# Altium schematic symbol library XH-3A_C29086011_XH-3A_C2908601.schdoc.SCHLIB: 1 symbol
Pins are listed as number, name and electrical type; pins without a type are passive.

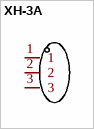
[diagram p0: symbol XH-3A]

## XH-3A
designator CN??  (value not drawn)
Symbol: XH-3A_C2908601; Add into BOM: yes; Pins Structure: 1x3P; Pitch: 2.5mm; Number of PINs Per Row: 3; Reference Series: XH; Current Rating (Max): 3A; Device: XH-3A; Supplier: LCSC; Supplier Part: C2908601; Manufacturer Part: XH-3A; JLCPCB Part Class: Extended Part; Datasheet: https://atta.szlcsc.com/upload/public/pdf/source/20230711/68D365716984B4AFE576D1D73D61B465.pdf; Convert to PCB: yes; Row Spacing: -; Number of Pins: 3P; Number of Rows: 1
footprint CONN-TH_XH-3A
pins: 1, 2, 3